# EAGLE library part TC670 (library myLib)
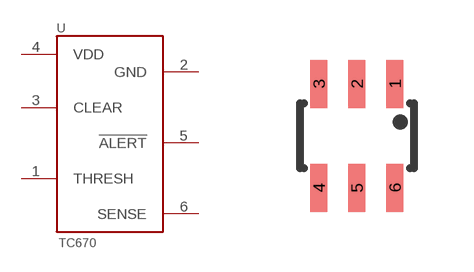
[diagram p17: symbol with the pads of SOT-23-6; footprint SOT-23-6]

Designator prefix -

## TC670  [SOT-23-6]
1  THRESH
2  GND
3  CLEAR
4  VDD
5  !ALERT
6  SENSE

## Footprint SOT-23-6 (pad centres in mm)
smd 0.43 x 1.2: 1 0.95,1.3; 2 0,1.3; 3 -0.95,1.3; 4 -0.95,-1.3; 5 0,-1.3; 6 0.95,-1.3